# EAGLE library part PLD-20 (library gost_con_pls-pld-pbs-pbd)
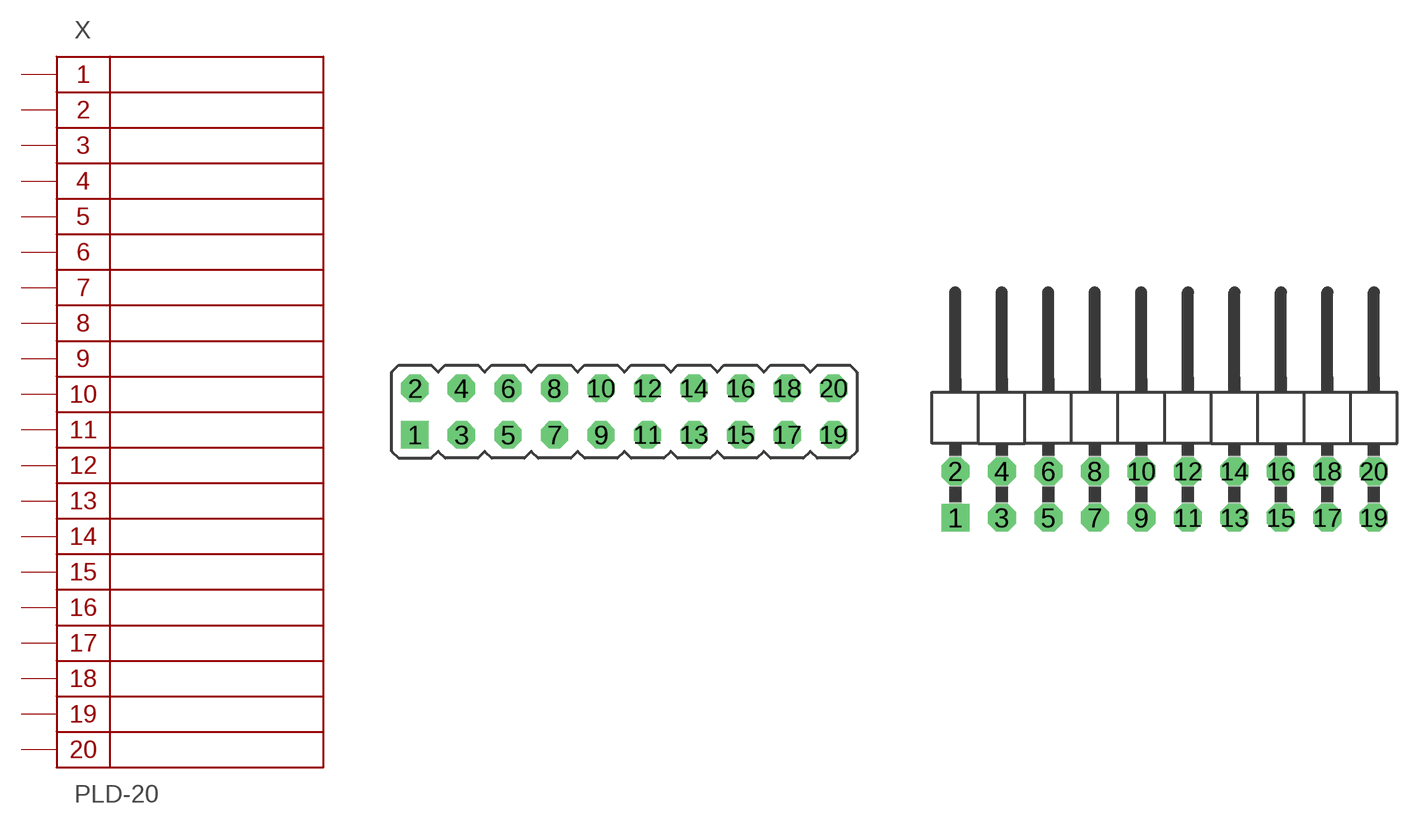
[diagram p2: symbol with the pads of PLD-20; footprints PLD-20, PLD-20R]

Designator prefix X

## PLD-20  [PLD-20]
1  1
2  2
3  3
4  4
5  5
6  6
7  7
8  8
9  9
10  10
11  11
12  12
13  13
14  14
15  15
16  16
17  17
18  18
19  19
20  20

## PLD-20R  [PLD-20R]
Pads as for PLD-20

## Footprint PLD-20 (pad centres in mm)
drill 0.9 pad 1.5 square: 1 -2.54,-1.27
drill 0.9 pad 1.5 octagon: 2 -2.54,1.27; 3 0,-1.27; 4 0,1.27; 5 2.54,-1.27; 6 2.54,1.27; 7 5.08,-1.27; 8 5.08,1.27; 9 7.62,-1.27; 10 7.62,1.27; 11 10.16,-1.27; 12 10.16,1.27; 13 12.7,-1.27; 14 12.7,1.27; 15 15.24,-1.27; 16 15.24,1.27; 17 17.78,-1.27; 18 17.78,1.27; 19 20.32,-1.27; 20 20.32,1.27

## Footprint PLD-20R (pad centres in mm)
drill 1.016 square: 1 -7.62,-1.27
drill 1.016 octagon: 2 -7.62,1.27; 3 -5.08,-1.27; 4 -5.08,1.27; 5 -2.54,-1.27; 6 -2.54,1.27; 7 0,-1.27; 8 0,1.27; 9 2.54,-1.27; 10 2.54,1.27; 11 5.08,-1.27; 12 5.08,1.27; 13 7.62,-1.27; 14 7.62,1.27; 15 10.16,-1.27; 16 10.16,1.27; 17 12.7,-1.27; 18 12.7,1.27; 19 15.24,-1.27; 20 15.24,1.27